# EAGLE library part S2G3_JUMP (library #PaJa_konektory)
Radove konektory - koliky - dvojite - 2x3
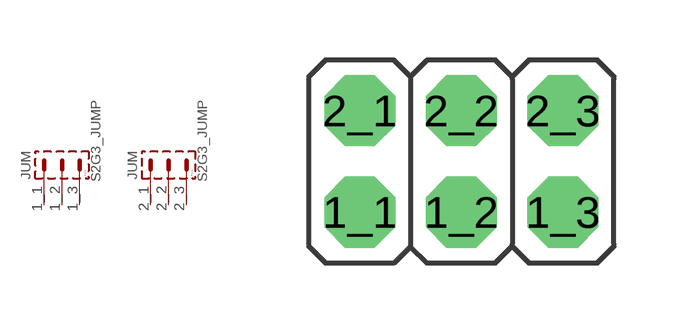
[diagram p26: symbol with the pads of S2G3_JUM; footprint S2G3_JUM]

Designator prefix JUM; gates 1=S1G3 2=S1G3

## S2G3_JUMP  [S2G3_JUM]
1_1  1:1  pas
1_2  1:2  pas
1_3  1:3  pas
2_1  2:1  pas
2_2  2:2  pas
2_3  2:3  pas

## Footprint S2G3_JUM (pad centres in mm)
drill 0.813 pad 1.778 octagon: 1_1 -2.54,-1.27; 1_2 0,-1.27; 1_3 2.54,-1.27; 2_1 -2.54,1.27; 2_2 0,1.27; 2_3 2.54,1.27